# Altium schematic symbol library Interface_Telecom.SchLib: 3 symbols
Pins are listed as number, name and electrical type; pins without a type are passive.

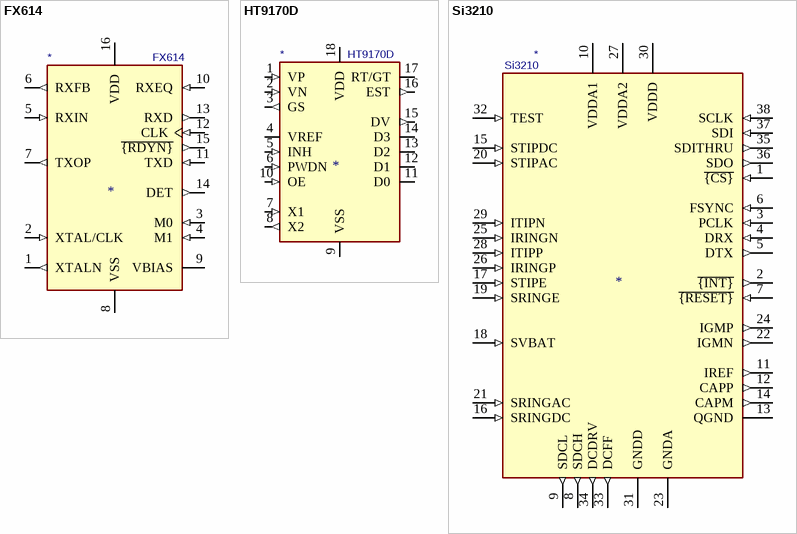
[diagram p0: symbols FX614 to Si3210]

## FX614
designator *  value FX614
ki_keywords: Bell Modem; ki_description: Bell 202 Compatible Modem, DIP-16/SO-16; ki_fp_filters: DIP* PDIP* SO*; Supplier: https://www.cmlmicro.com/wp-content/uploads/2017/06/FX614_ds.pdf
pins: 1 XTALN (out), 2 XTAL/CLK (in), 3 M0 (in), 4 M1 (in), 5 RXIN (in), 6 RXFB (out), 7 TXOP (out), 8 VSS (power), 9 VBIAS, 10 RXEQ (in), 11 TXD (in), 12 CLK (in), 13 RXD (out), 14 DET (out), 15 ~{{RDYN}} (out), 16 VDD (power)

## HT9170D
designator *  value HT9170D
ki_keywords: DTMF Receiver; ki_description: DTMF receiver with 4 bit output, SOIC-18; ki_fp_filters: SOIC*7.5x11.6mm*P1.27mm*; Footprint: Package_SO:SOIC-18W_7.5x11.6mm_P1.27mm; Supplier: http://www.holtek.com/documents/10179/116711/9170v111.pdf
footprint SOIC-18W_7.5x11.6mm_P1.27mm
pins: 1 VP (in), 2 VN (in), 3 GS (out), 4 VREF (power), 5 INH (in), 6 PWDN (in), 7 X1 (in), 8 X2 (out), 9 VSS (power), 10 OE (in), 11 D0 (hiz), 12 D1 (hiz), 13 D2 (hiz), 14 D3 (hiz), 15 DV (out), 16 EST (out), 17 RT/GT (io), 18 VDD (power)

## Si3210
designator *  value Si3210
ki_keywords: ProSLIC slic; ki_description: ProSLIC Programmable cmos slic/codec with ringing/battery voltage generation; ki_fp_filters: TSSOP*; Footprint: Package_SO:TSSOP-38_4.4x9.7mm_P0.5mm; Supplier: http://www.mouser.com/ds/2/368/si3210-38974.pdf
footprint TSSOP-38_4.4x9.7mm_P0.5mm
pins: 1 ~{{CS}} (in), 2 ~{{INT}} (out), 3 PCLK (in), 4 DRX (in), 5 DTX (out), 6 FSYNC (in), 7 ~{{RESET}} (in), 8 SDCH (out), 9 SDCL (out), 10 VDDA1 (power), 11 IREF (out), 12 CAPP (out), 13 QGND (power), 14 CAPM (out), 15 STIPDC (in), 16 SRINGDC (in), 17 STIPE (in), 18 SVBAT (in), 19 SRINGE (in), 20 STIPAC (in), 21 SRINGAC (in), 22 IGMN (out), 23 GNDA (power), 24 IGMP (out), 25 IRINGN (in), 26 IRINGP (in), 27 VDDA2 (power), 28 ITIPP (in), 29 ITIPN (in), 30 VDDD (power), 31 GNDD (power), 32 TEST (in), 33 DCFF (out), 34 DCDRV (out), 35 SDITHRU (out), 36 SDO (out), 37 SDI (in), 38 SCLK (in)